# EAGLE library part ADUM6202 (library Public)
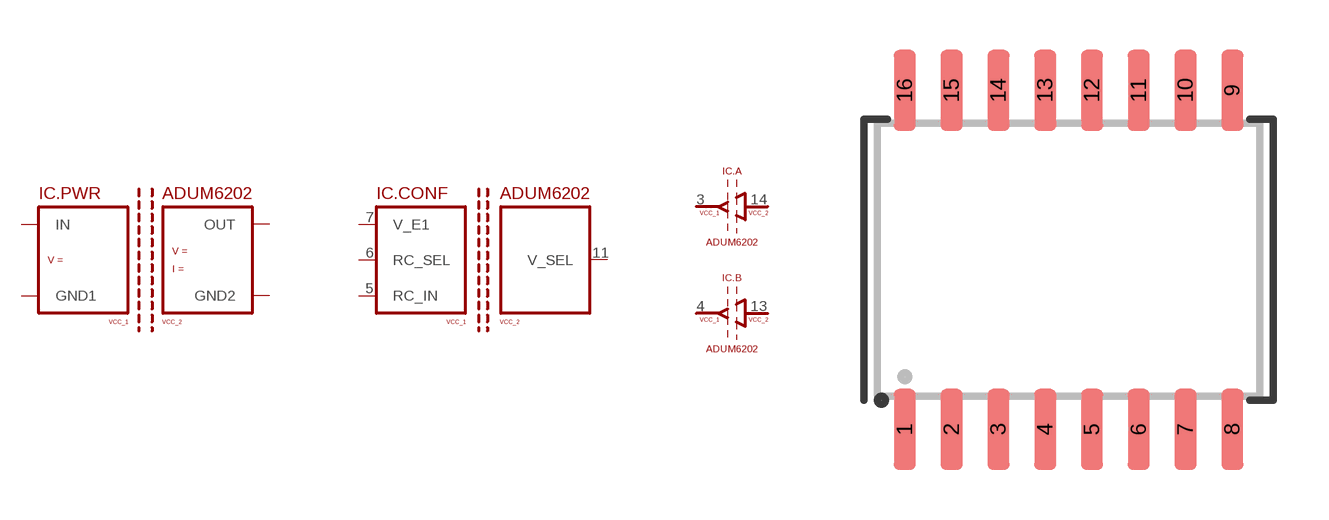
[diagram p186: symbol with the pads of SO16W; footprint SO16W]

Designator prefix IC; gates .PWR=DC/DC_ISOLATED .CONF=ADUM620X .A=ISOLATOR_VCC2_TO_VCC1 .B=ISOLATOR_VCC2_TO_VCC1

## ADUM6202  [SO16W]
1  .PWR:IN
2  .PWR:GND1
3  .A:OUT
4  .B:OUT
5  .CONF:RC_IN
6  .CONF:RC_SEL
7  .CONF:V_E1
8  .PWR:GND1
9  .PWR:GND2
11  .CONF:V_SEL
13  .B:IN
14  .A:IN
15  .PWR:GND2
16  .PWR:OUT

## Footprint SO16W (pad centres in mm)
smd 0.6 x 2.2: 1 -4.445,-4.6; 2 -3.175,-4.6; 3 -1.905,-4.6; 4 -0.635,-4.6; 5 0.635,-4.6; 6 1.905,-4.6; 7 3.175,-4.6; 8 4.445,-4.6; 9 4.445,4.6; 10 3.175,4.6; 11 1.905,4.6; 12 0.635,4.6; 13 -0.635,4.6; 14 -1.905,4.6; 15 -3.175,4.6; 16 -4.445,4.6